# Altium footprint library Potentiometer_THT.PcbLib: 106 footprints (part 1 of 7)
Each footprint in its own frame and in the unit in brackets; x right, y up, seen from the top. Pads: shape width x height; smd on the part's side, far side on the other; paste and mask are expansions set on the pad; w line width, h text height; cw(c..) or ccw(c..) is an arc to the next point about the centre after c.
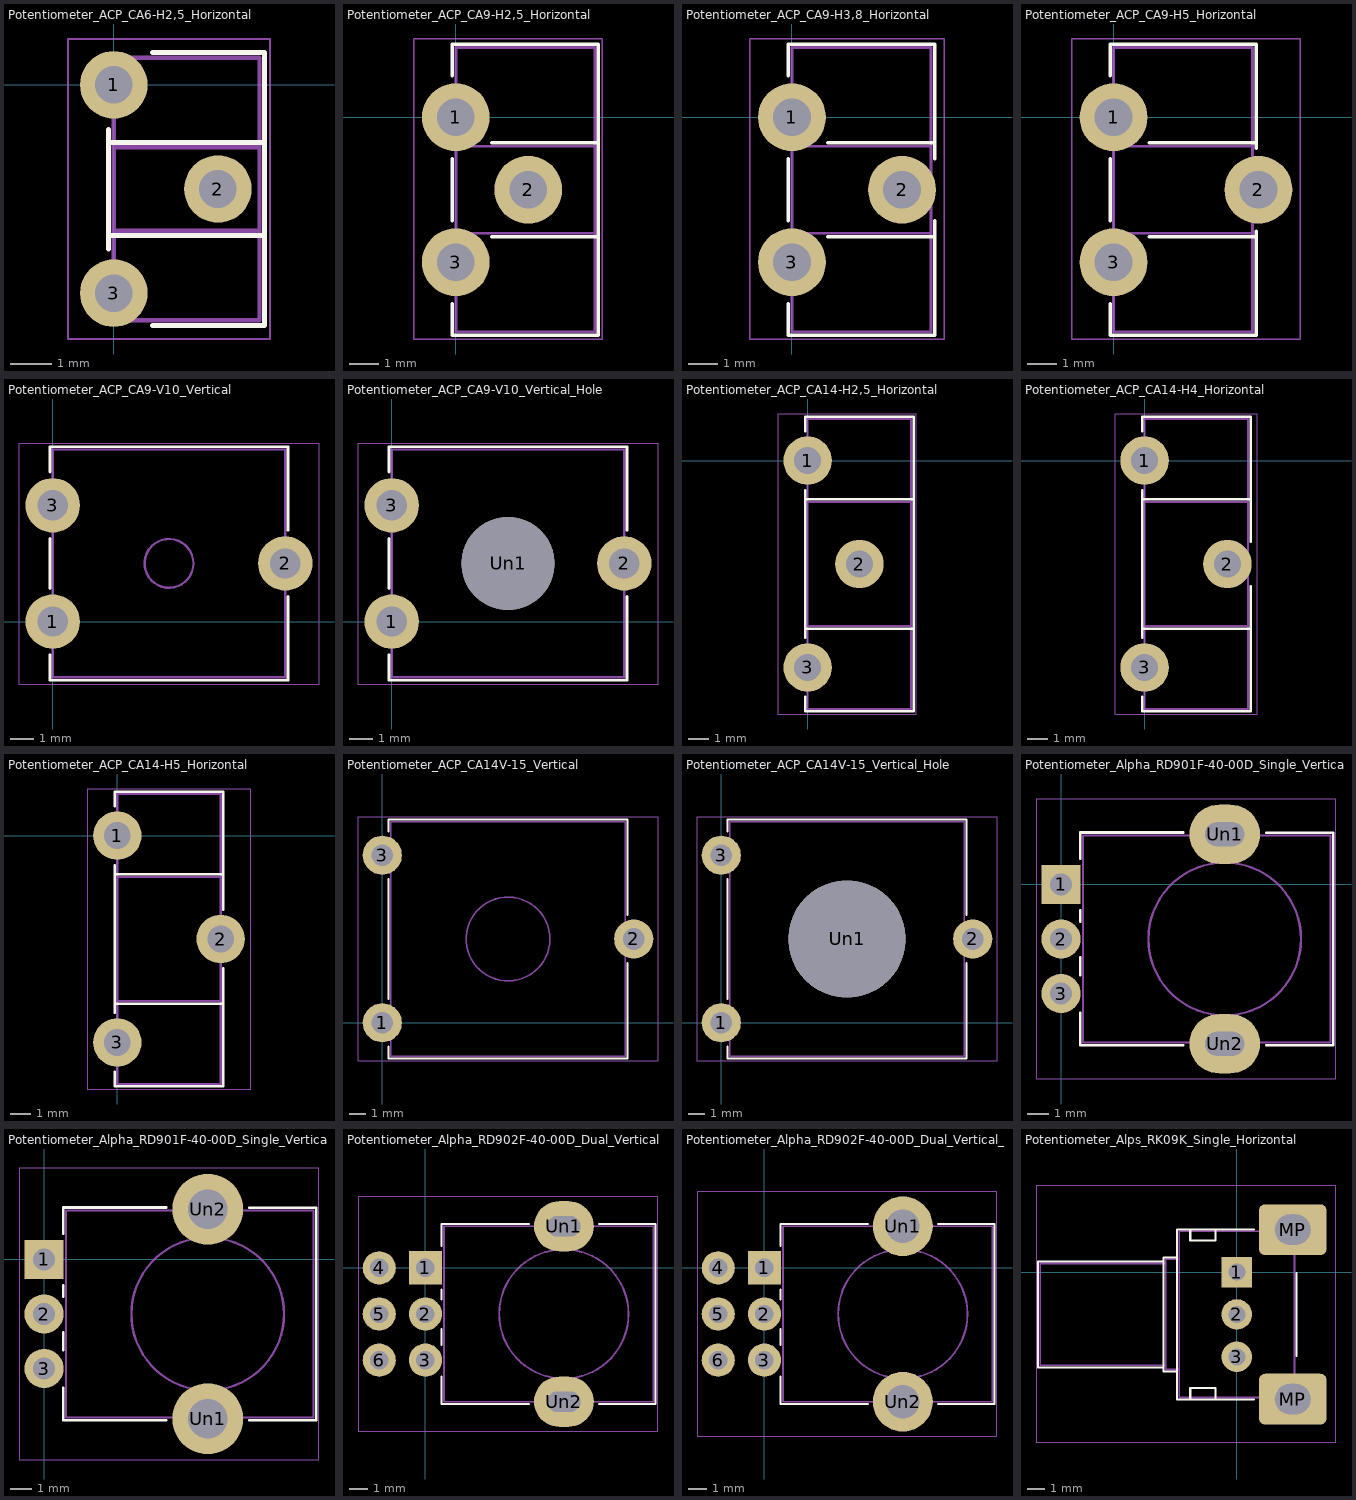
[diagram p0: the footprints below, top view; thin cyan lines are the x and y axes]

## Potentiometer_ACP_CA6-H2,5_Horizontal [mm]
pads (3):
  round 1.62 hole 0.9: 1(0,0) 2(2.5,-2.5) 3(0,-5)
F.SilkS:
  lines w0.12: -0.121,-3.935 -0.121,-1.066 ; 0.925,-5.77 3.62,-5.77 3.62,0.77 0.925,0.77 ; -0.121,-3.62 3.62,-3.62 3.62,-1.38 -0.121,-1.38 -0.121,-3.62
F.CrtYd:
  lines w0.05: -1.1,-6.1 -1.1,1.1 3.75,1.1 3.75,-6.1 -1.1,-6.1
F.Fab:
  lines w0.1: 0,-5.65 3.5,-5.65 3.5,0.65 0,0.65 0,-5.65 ; 0,-3.5 0,-1.5 3.5,-1.5 3.5,-3.5 0,-3.5
  text "'.Designator'" at -1.439,-3.188 h0.78

## Potentiometer_ACP_CA9-H2,5_Horizontal [mm]
pads (3):
  round 2.34 hole 1.3: 1(0,0) 2(2.5,-2.5) 3(0,-5)
F.SilkS:
  lines w0.12: -0.121,-6.425 -0.121,-7.52 4.92,-7.52 4.92,2.521 -0.121,2.521 -0.121,1.426 ; 1.237,-4.12 4.92,-4.12 4.92,-0.88 1.237,-0.88 ; -0.121,-3.575 -0.121,-1.426 -0.121,-3.575
F.CrtYd:
  lines w0.05: -1.45,-7.65 -1.45,2.7 5.05,2.7 5.05,-7.65 -1.45,-7.65
F.Fab:
  lines w0.1: 0,-7.4 0,2.4 4.8,2.4 4.8,-7.4 0,-7.4 ; 0,-4 4.8,-4 4.8,-1 0,-1 0,-4
  text "'.Designator'" at -1.647,-3.34 h1

## Potentiometer_ACP_CA9-H3,8_Horizontal [mm]
pads (3):
  round 2.34 hole 1.3: 1(0,0) 2(3.8,-2.5) 3(0,-5)
F.SilkS:
  lines w0.12: -0.121,-6.425 -0.121,-7.52 4.92,-7.52 4.92,-3.573 4.92,-4.12 1.237,-4.12 ; -0.121,1.426 -0.121,2.521 4.92,2.521 4.92,-1.428 4.92,-0.88 1.237,-0.88 ; -0.121,-3.575 -0.121,-1.426 -0.121,-3.575
F.CrtYd:
  lines w0.05: -1.45,-7.65 -1.45,2.7 5.25,2.7 5.25,-7.65 -1.45,-7.65
F.Fab:
  lines w0.1: 0,-7.4 4.8,-7.4 4.8,2.4 0,2.4 0,-7.4 ; 0,-4 4.8,-4 4.8,-1 0,-1 0,-4
  text "'.Designator'" at -1.647,-3.34 h1

## Potentiometer_ACP_CA9-H5_Horizontal [mm]
pads (3):
  round 2.34 hole 1.3: 1(0,0) 2(5,-2.5) 3(0,-5)
F.SilkS:
  lines w0.12: -0.121,-6.425 -0.121,-7.52 4.92,-7.52 4.92,-3.925 4.92,-4.12 1.237,-4.12 ; -0.121,1.426 -0.121,2.521 4.92,2.521 4.92,-1.075 4.92,-0.88 1.237,-0.88 ; -0.121,-3.575 -0.121,-1.426 -0.121,-3.575
F.CrtYd:
  lines w0.05: -1.45,-7.65 6.45,-7.65 6.45,2.7 -1.45,2.7 -1.45,-7.65
F.Fab:
  lines w0.1: 0,-7.4 0,2.4 4.8,2.4 4.8,-7.4 0,-7.4 ; 0,-4 4.8,-4 4.8,-1 0,-1 0,-4
  text "'.Designator'" at -1.647,-3.34 h1

## Potentiometer_ACP_CA9-V10_Vertical [mm]
pads (3):
  round 2.34 hole 1.3: 1(0,0) 2(10,2.5) 3(0,5)
F.SilkS:
  lines w0.12: -0.12,-1.425 -0.12,-2.52 10.12,-2.52 10.12,1.075 ; -0.12,1.425 -0.12,3.574 ; -0.12,6.426 -0.12,7.521 10.12,7.521 10.12,3.925
F.CrtYd:
  lines w0.05: -1.45,-2.7 11.45,-2.7 11.45,7.65 -1.45,7.65 -1.45,-2.7
F.Fab:
  circle w0.1: c5,2.5 r1.05
  lines w0.1: 0,-2.4 10,-2.4 10,7.4 0,7.4 0,-2.4
  text "'.Designator'" at 1.84,-1.547 h1

## Potentiometer_ACP_CA9-V10_Vertical_Hole [mm]
pads (4):
  round 2.34 hole 1.3: 1(0,0) 2(10,2.5) 3(0,5)
  round 4 hole 4: Un1(5,2.5)
F.SilkS:
  lines w0.12: -0.12,-1.425 -0.12,-2.52 10.12,-2.52 10.12,1.075 ; -0.12,1.425 -0.12,3.574 ; -0.12,6.426 -0.12,7.521 10.12,7.521 10.12,3.925
F.CrtYd:
  lines w0.05: -1.45,-2.7 11.45,-2.7 11.45,7.65 -1.45,7.65 -1.45,-2.7
F.Fab:
  lines w0.1: 0,-2.4 10,-2.4 10,7.4 0,7.4 0,-2.4
  text "'.Designator'" at 1.84,-1.547 h1

## Potentiometer_ACP_CA14-H2,5_Horizontal [mm]
pads (3):
  round 2.34 hole 1.3: 1(0,0) 2(2.5,-5) 3(0,-10)
F.SilkS:
  lines w0.12: -0.121,-11.425 -0.121,-12.12 5.12,-12.12 5.12,2.12 -0.121,2.12 -0.121,1.426 ; -0.121,-8.575 -0.121,-1.426 ; -0.121,-8.121 5.12,-8.121 5.12,-1.88 -0.121,-1.88 -0.121,-8.121
F.CrtYd:
  lines w0.05: -1.45,-12.25 -1.45,2.25 5.25,2.25 5.25,-12.25 -1.45,-12.25
F.Fab:
  lines w0.1: 0,-12 0,2 5,2 5,-12 0,-12 ; 0,-8 5,-8 5,-2 0,-2 0,-8
  text "'.Designator'" at -1.547,-5.84 h1

## Potentiometer_ACP_CA14-H4_Horizontal [mm]
pads (3):
  round 2.34 hole 1.3: 1(0,0) 2(4,-5) 3(0,-10)
F.SilkS:
  lines w0.12: -0.121,-11.425 -0.121,-12.12 5.12,-12.12 5.12,-6.073 5.12,-8.121 -0.121,-8.121 -0.121,-1.88 5.12,-1.88 5.12,-3.928 5.12,2.12 -0.121,2.12 -0.121,1.426 ; -0.121,-8.575 -0.121,-1.426
F.CrtYd:
  lines w0.05: -1.45,-12.25 5.45,-12.25 5.45,2.25 -1.45,2.25 -1.45,-12.25
F.Fab:
  lines w0.1: 0,-12 0,2 5,2 5,-12 0,-12 ; 0,-8 0,-2 5,-2 5,-8 0,-8
  text "'.Designator'" at -1.547,-5.84 h1

## Potentiometer_ACP_CA14-H5_Horizontal [mm]
pads (3):
  round 2.34 hole 1.3: 1(0,0) 2(5,-5) 3(0,-10)
F.SilkS:
  lines w0.12: -0.121,-11.425 -0.121,-12.12 5.12,-12.12 5.12,-6.425 5.12,-8.121 -0.121,-8.121 -0.121,-1.88 5.12,-1.88 5.12,-3.575 5.12,2.12 -0.121,2.12 -0.121,1.426 ; -0.121,-8.575 -0.121,-1.426
F.CrtYd:
  lines w0.05: -1.45,-12.25 6.45,-12.25 6.45,2.25 -1.45,2.25 -1.45,-12.25
F.Fab:
  lines w0.1: 0,-12 5,-12 5,2 0,2 0,-12 ; 0,-8 0,-2 5,-2 5,-8 0,-8
  text "'.Designator'" at -1.547,-5.84 h1

## Potentiometer_ACP_CA14V-15_Vertical [mm]
pads (3):
  round 2.34 hole 1.3: 1(0,0) 2(15,5) 3(0,10)
F.SilkS:
  lines w0.12: 0.38,-1.425 0.38,-2.12 14.62,-2.12 14.62,3.575 ; 0.38,1.425 0.38,8.574 ; 0.38,11.426 0.38,12.12 14.62,12.12 14.62,6.425
F.CrtYd:
  lines w0.05: -1.45,-2.25 -1.45,12.25 16.45,12.25 16.45,-2.25 -1.45,-2.25
F.Fab:
  circle w0.1: c7.5,5 r2.5
  lines w0.1: 0.5,-2 14.5,-2 14.5,12 0.5,12 0.5,-2
  text "'.Designator'" at 2.34,0.953 h1

## Potentiometer_ACP_CA14V-15_Vertical_Hole [mm]
pads (4):
  round 2.34 hole 1.3: 1(0,0) 2(15,5) 3(0,10)
  round 7 hole 7: Un1(7.5,5)
F.SilkS:
  lines w0.12: 0.38,-1.425 0.38,-2.12 14.62,-2.12 14.62,3.575 ; 0.38,1.425 0.38,8.574 ; 0.38,11.426 0.38,12.12 14.62,12.12 14.62,6.425
F.CrtYd:
  lines w0.05: -1.45,-2.25 16.45,-2.25 16.45,12.25 -1.45,12.25 -1.45,-2.25
F.Fab:
  lines w0.1: 0.5,-2 0.5,12 14.5,12 14.5,-2 0.5,-2
  text "'.Designator'" at 2.34,0.953 h1

## Potentiometer_Alpha_RD901F-40-00D_Single_Vertical [mm]
pads (5):
  rect 1.8x1.8 hole 1: 1(0,0)
  round 1.8 hole 1: 2(0,-2.5) 3(0,-5)
  rrect100% 3.24x2.72 hole 1.8 slot 1.1 at 90 deg: Un1(7.5,2.3) Un2(7.5,-7.3)
F.SilkS:
  lines w0.12: 0.88,-5.88 0.88,-7.37 5.6,-7.37 ; 0.88,-4.16 0.88,-3.33 ; 0.88,-1.71 0.88,-1.18 ; 0.88,1.19 0.88,2.37 ; 0.88,2.38 5.6,2.38 ; 9.41,-7.37 12.47,-7.37 12.47,2.37 9.41,2.37
F.CrtYd:
  lines w0.05: -1.15,-8.91 12.6,-8.91 12.6,3.91 -1.15,3.91 -1.15,-8.91
F.Fab:
  circle w0.1: c7.5,-2.5 r3.5
  lines w0.1: 1,-7.25 1,2.25 12.35,2.25 12.35,-7.25 1,-7.25
  text "'.Designator'" at 3.573,-3.38 h1

## Potentiometer_Alpha_RD901F-40-00D_Single_Vertical_CircularHoles [mm]
pads (5):
  rect 1.8x1.8 hole 1: 1(0,0)
  round 1.8 hole 1: 2(0,-2.5) 3(0,-5)
  round 3.24 hole 1.8: Un1(7.5,-7.3) Un2(7.5,2.3)
F.SilkS:
  lines w0.12: 0.88,-5.88 0.88,-7.37 5.6,-7.37 ; 0.88,-4.16 0.88,-3.33 ; 0.88,-1.71 0.88,-1.18 ; 0.88,1.19 0.88,2.37 ; 0.88,2.38 5.6,2.38 ; 9.41,-7.37 12.47,-7.37 12.47,2.37 9.41,2.37
F.CrtYd:
  lines w0.05: -1.15,-9.17 -1.15,4.17 12.6,4.17 12.6,-9.17 -1.15,-9.17
F.Fab:
  circle w0.1: c7.5,-2.5 r3.5
  lines w0.1: 1,-7.25 12.35,-7.25 12.35,2.25 1,2.25 1,-7.25
  text "'.Designator'" at 3.573,-3.38 h1

## Potentiometer_Alpha_RD902F-40-00D_Dual_Vertical [mm]
pads (8):
  rect 1.8x1.8 hole 1: 1(0,0)
  round 1.8 hole 1: 2(0,-2.5) 3(0,-5) 4(-2.5,0) 5(-2.5,-2.5) 6(-2.5,-5)
  rrect100% 3.24x2.72 hole 1.8 slot 1.1 at 90 deg: Un1(7.5,2.25) Un2(7.5,-7.25)
F.SilkS:
  lines w0.12: 0.88,-5.88 0.88,-7.37 5.6,-7.37 ; 0.88,-4.16 0.88,-3.33 ; 0.88,-1.71 0.88,-1.18 ; 0.88,1.19 0.88,2.37 5.6,2.37 ; 9.41,-7.37 12.47,-7.37 12.47,2.37 9.41,2.37
F.CrtYd:
  lines w0.05: -3.65,-8.86 -3.65,3.86 12.6,3.86 12.6,-8.86 -3.65,-8.86
F.Fab:
  circle w0.1: c7.5,-2.5 r3.5
  lines w0.1: 1,-7.25 12.35,-7.25 12.35,2.25 1,2.25 1,-7.25
  text "'.Designator'" at 3.573,-3.38 h1

## Potentiometer_Alpha_RD902F-40-00D_Dual_Vertical_CircularHoles [mm]
pads (8):
  rect 1.8x1.8 hole 1: 1(0,0)
  round 1.8 hole 1: 2(0,-2.5) 3(0,-5) 4(-2.5,0) 5(-2.5,-2.5) 6(-2.5,-5)
  round 3.24 hole 1.8: Un1(7.5,2.25) Un2(7.5,-7.25)
F.SilkS:
  lines w0.12: 0.88,-5.88 0.88,-7.37 5.6,-7.37 ; 0.88,-4.16 0.88,-3.33 ; 0.88,-1.71 0.88,-1.18 ; 0.88,1.19 0.88,2.37 5.6,2.37 ; 9.41,-7.37 12.47,-7.37 12.47,2.37 9.41,2.37
F.CrtYd:
  lines w0.05: -3.65,-9.12 12.6,-9.12 12.6,4.12 -3.65,4.12 -3.65,-9.12
F.Fab:
  circle w0.1: c7.5,-2.5 r3.5
  lines w0.1: 1,-7.25 12.35,-7.25 12.35,2.25 1,2.25 1,-7.25
  text "'.Designator'" at 3.573,-3.38 h1

## Potentiometer_Alps_RK09K_Single_Horizontal [mm]
pads (5):
  rect 1.8x1.8 hole 1: 1(0,0)
  round 1.8 hole 1: 2(0,-2.5) 3(0,-5)
  rrect25% 4x3 hole 1.8 slot 2.1 at 0 deg: MP(3.3,-7.5) MP(3.3,2.5)
F.SilkS:
  lines w0.12: -4.32,-5.62 -11.72,-5.62 -11.72,0.62 -4.32,0.62 ; -3.52,-5.87 -4.32,-5.87 -4.32,0.87 -3.52,0.87 ; 1,-7.521 -1.25,-7.521 ; 1,2.52 -1.25,2.52 ; 3.52,-4.944 3.52,-0.055 ; -2.75,-7.521 -3.52,-7.521 -3.52,2.52 -2.75,2.52 ; -2.75,-7.521 -2.75,-6.85 -1.25,-6.85 -1.25,-7.521 ; -2.75,-7.521 -1.25,-7.521 ; -2.75,2.52 -2.75,1.85 -1.25,1.85 -1.25,2.52 ; -2.75,2.52 -1.25,2.52
F.CrtYd:
  lines w0.05: -11.85,-10.05 -11.85,5.1 5.85,5.1 5.85,-10.05 -11.85,-10.05
F.Fab:
  lines w0.1: -4.2,-5.5 -11.6,-5.5 -11.6,0.5 -4.2,0.5 ; -3.4,-5.75 -4.2,-5.75 -4.2,0.75 -3.4,0.75 ; -3.4,-7.4 -3.4,2.4 3.4,2.4 3.4,-7.4 -3.4,-7.4
  text "'.Designator'" at -4.047,-3.34 h1